# Altium footprint library TO-99.PcbLib: 1 footprints
Each footprint in its own frame and in the unit in brackets; x right, y up, seen from the top. Pads: shape width x height; smd on the part's side, far side on the other; paste and mask are expansions set on the pad; w line width, h text height; cw(c..) or ccw(c..) is an arc to the next point about the centre after c.
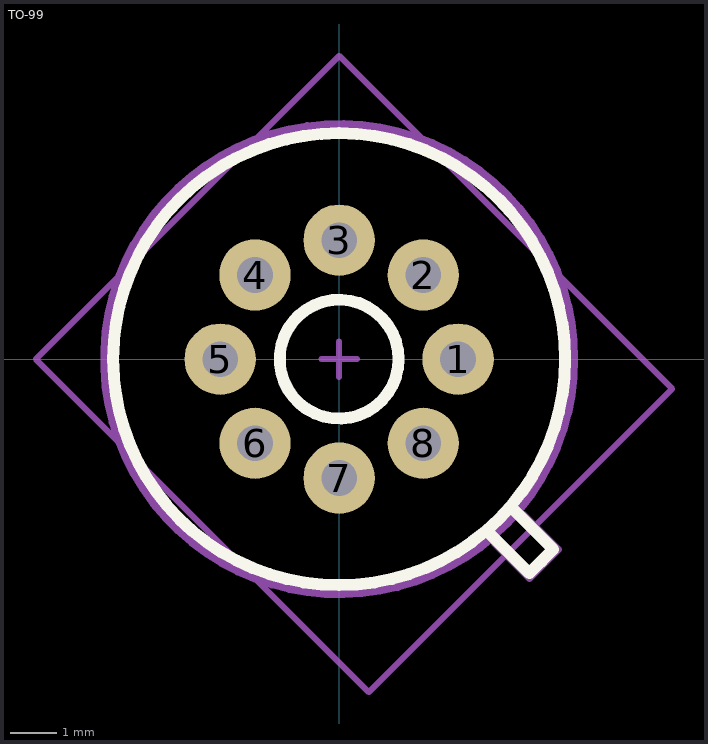
[diagram p0: the footprint, top view; thin cyan lines are the x and y axes]

## TO-99 [mil]
pads (8):
  round 60 hole 30: 1(100,0) 2(70.71,70.71) 3(0,100) 4(-70.71,70.71) 5(-100,0) 6(-70.71,-70.71) 7(0,-100) 8(70.71,-70.71)
Top Overlay:
  circle w10: c0,0 r190
  circle w10: c0,0 r50
  lines w10: 125,-145 160,-180 170,-170 180,-160 145,-125
Top Assembly:
  lines w5: -255,0 0,255 280,-25 25,-280 -255,0
Top Courtyard:
  circle w7.87: c0,0 r197.04
  lines w5: -15,0 15,0 ; 0,-15 0,15 ; 130,-155 160,-185 185,-160 155,-130
3D body "User Library-TO-99(2013).step": height 231.5, standoff -214.57, extent -254.52,-279.52 280.07,255.07